# Altium footprint library WR-USB.PcbLib: 52 footprints (part 4 of 4)
Each footprint in its own frame and in the unit in brackets; x right, y up, seen from the top. Pads: shape width x height; smd on the part's side, far side on the other; paste and mask are expansions set on the pad; w line width, h text height; cw(c..) or ccw(c..) is an arc to the next point about the centre after c.
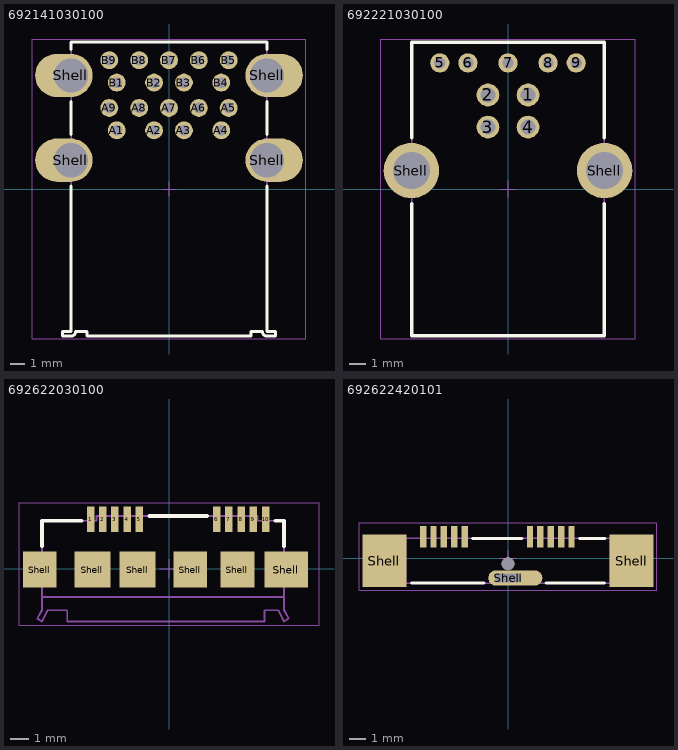
[diagram p3: the footprints below, top view; thin cyan lines are the x and y axes]

## 692141030100 [mm] "USB 3.0 Type A Stacked"
height 15.42
pads (22):
  round 1.2 hole 0.7: A1(-3.5,3.93) A2(-1,3.93) A3(1,3.93) A4(3.5,3.93) A5(4,5.43) A6(2,5.43) A7(0,5.43) A8(-2,5.43) A9(-4,5.43) B1(-3.5,7.13) B2(-1,7.13) B3(1,7.13) B4(3.5,7.13) B5(4,8.63) B6(2,8.63) B7(0,8.63) B8(-2,8.63) B9(-4,8.63)
  oval 3.85x2.9 hole 2.3 copper offset -0.475,0: Shell(-6.57,1.93) Shell(-6.57,7.61)
  oval 3.85x2.9 hole 2.3 copper offset 0.475,0: Shell(6.57,1.93) Shell(6.57,7.61)
Top Overlay:
  lines w0.2: -6.55,0.2 -6.55,-9.55 -7.15,-9.55 -7.15,-9.85 -6.56,-9.85 ccw(c-6.55,-9.55) -6.25,-9.55 -5.5,-9.55 -5.5,-9.85 5.5,-9.85 5.5,-9.55 6.25,-9.55 ccw(c6.55,-9.55) 6.56,-9.85 7.15,-9.85 7.15,-9.55 6.55,-9.55 6.55,0.2 ; -6.55,3.66 -6.55,5.85 ; -6.55,9.35 -6.55,9.85 6.55,9.85 6.55,9.35 ; 6.55,3.66 6.55,5.85
Top Component Outline:
  lines w0.1: -7.15,-9.85 -6.56,-9.85 ccw(c-6.55,-9.55) -6.25,-9.55 -5.5,-9.55 -5.5,-9.85 5.5,-9.85 5.5,-9.55 6.25,-9.55 ccw(c6.55,-9.55) 6.56,-9.85 7.15,-9.85 7.15,-9.55 6.55,-9.55 6.55,9.85 -6.55,9.85 -6.55,-9.55 -7.15,-9.55 -7.15,-9.85
Top Courtyard:
  lines w0.05: -9.17,-10.05 -9.17,10.05 9.17,10.05 9.17,-10.05 -9.17,-10.05
Top Component Center:
  lines w0.05: -0.5,0 0.5,0 ; 0,-0.5 0,0.5
Top Designator (Mech19):
  text ".Designator" at -7.498,-0.5 h1.5
3D body "692141030100.stp": height 16.16, standoff -3.45, extent -7.794,-9.85 7.792,9.85

## 692221030100 [mm] "USB 3.0 Type B Horizontal"
height 12.9
pads (11):
  round 1.42 hole 0.92: 1(1.25,5.86) 2(-1.25,5.86) 3(-1.25,3.86) 4(1.25,3.86)
  round 1.2 hole 0.7: 5(-4.25,7.86) 6(-2.5,7.86) 7(0,7.86) 8(2.5,7.86) 9(4.25,7.86)
  round 3.45 hole 2.3: Shell(-6.02,1.15) Shell(6.02,1.15)
Top Overlay:
  lines w0.2: -6,-0.9 -6,-9.15 6,-9.15 6,-0.9 ; -6,3.2 -6,9.15 6,9.15 6,3.2
Top Component Outline:
  lines w0.1: -6,-9.15 6,-9.15 6,9.15 -6,9.15 -6,-9.15
Top Courtyard:
  lines w0.05: -7.945,-9.35 7.945,-9.35 7.945,9.35 -7.945,9.35 -7.945,-9.35
Top Component Center:
  lines w0.05: -0.5,0 0.5,0 ; 0,-0.5 0,0.5
Top Designator (Mech19):
  text ".Designator" at -7.498,-0.5 h1.5
3D body "692221030100.stp": height 12.95, standoff -3.18, extent -7.2,-9.15 7.2,9.15

## 692622030100 [mm] "Micro USB 3.0 Type B Horizontal SMT"
height 2.58
pads (16):
  rect 0.4x1.35 smd: 1(-4.17,2.63) 2(-3.52,2.63) 3(-2.87,2.63) 4(-2.22,2.63) 5(-1.57,2.63) 6(2.53,2.63) 7(3.18,2.63) 8(3.83,2.63) 9(4.48,2.63) 10(5.13,2.63)
  rect 1.8x1.9 smd: Shell(-6.87,-0.045) Shell(1.13,-0.045) Shell(3.63,-0.045)
  rect 1.9x1.9 smd: Shell(-4.07,-0.045) Shell(-1.67,-0.045)
  rect 2.3x1.9 smd: Shell(6.23,-0.045)
Top Overlay:
  lines w0.2: -6.745,1.2 -6.745,2.545 -4.65,2.545 ; -1.05,2.795 2.03,2.795 ; 5.65,2.545 6.105,2.545 6.105,1.2
Assembly Notes:
  lines w0.1: -6.745,-1.495 6.105,-1.495
  text "PCB Edge" at -1.9,-2.4 h0.61
Top Component Outline:
  lines w0.1: -6.995,-2.645 -6.745,-2.805 -6.445,-2.205 -5.405,-2.205 -5.405,-2.805 5.065,-2.805 5.065,-2.205 5.805,-2.205 6.105,-2.805 6.355,-2.645 6.105,-2.205 6.105,2.545 4.7,2.545 4.7,2.795 -3.85,2.795 -3.85,2.545 -6.745,2.545 -6.745,-2.205 -6.995,-2.645
Top Courtyard:
  lines w0.05: -7.97,-3.005 7.97,-3.005 7.97,3.505 -7.97,3.505 -7.97,-3.005
Top Component Center:
  lines w0.05: -0.5,0 0.5,0 ; 0,-0.5 0,0.5
Top Designator (Mech19):
  text ".Designator" at -7.498,-0.5 h1.5
3D body "692622030100.stp": height 2.8, standoff -0.15, extent -6.87,-2.795 6.872,2.807

## 692622420101 [mm] "Micro USB 3.0 Type B Vertical SMT"
height 5.15
pads (14):
  rect 0.4x1.35 smd: 1(3.98,1.34) 2(3.33,1.34) 3(2.68,1.34) 4(2.03,1.34) 5(1.38,1.34) 6(-2.72,1.34) 7(-3.37,1.34) 8(-4.02,1.34) 9(-4.67,1.34) 10(-5.32,1.34)
  round 0.8 hole 0.8 unplated: MH1(0,-0.35)
  rect 2.75x3.3 smd: Shell(-7.75,-0.16) Shell(7.75,-0.16)
  oval 3.4x0.95 hole 0.55 slot 1.6 at 0 deg copper offset 0.46,0: Shell(0,-1.24)
Top Overlay:
  lines w0.2: -6.05,-1.56 -1.5,-1.56 ; -2.225,1.24 0.875,1.24 ; 2.4,-1.56 6.05,-1.56 ; 4.475,1.24 6.075,1.24
Top Component Outline:
  lines w0.1: -6.425,-1.56 -6.425,1.24 6.425,1.24 6.425,-1.56 -6.425,-1.56
Top Courtyard:
  lines w0.05: -9.325,-2.01 9.325,-2.01 9.325,2.215 -9.325,2.215 -9.325,-2.01
Top Component Center:
  lines w0.05: -0.5,0 0.5,0 ; 0,-0.5 0,0.5
Top Designator (Mech19):
  text ".Designator" at -7.498,-0.5 h1.5
3D body "692622420101.stp": height 5.82, standoff -0.83, extent -8.7,-1.75 8.7,1.75